# EAGLE library part ATMEGA*U4 (library atmel)
8-bit AVR Microcontroller 16/32 kbytes flash 1.25k/2.5k bytes SRAM 512/1k bytes EEPROM USART USB 2.0 ADC
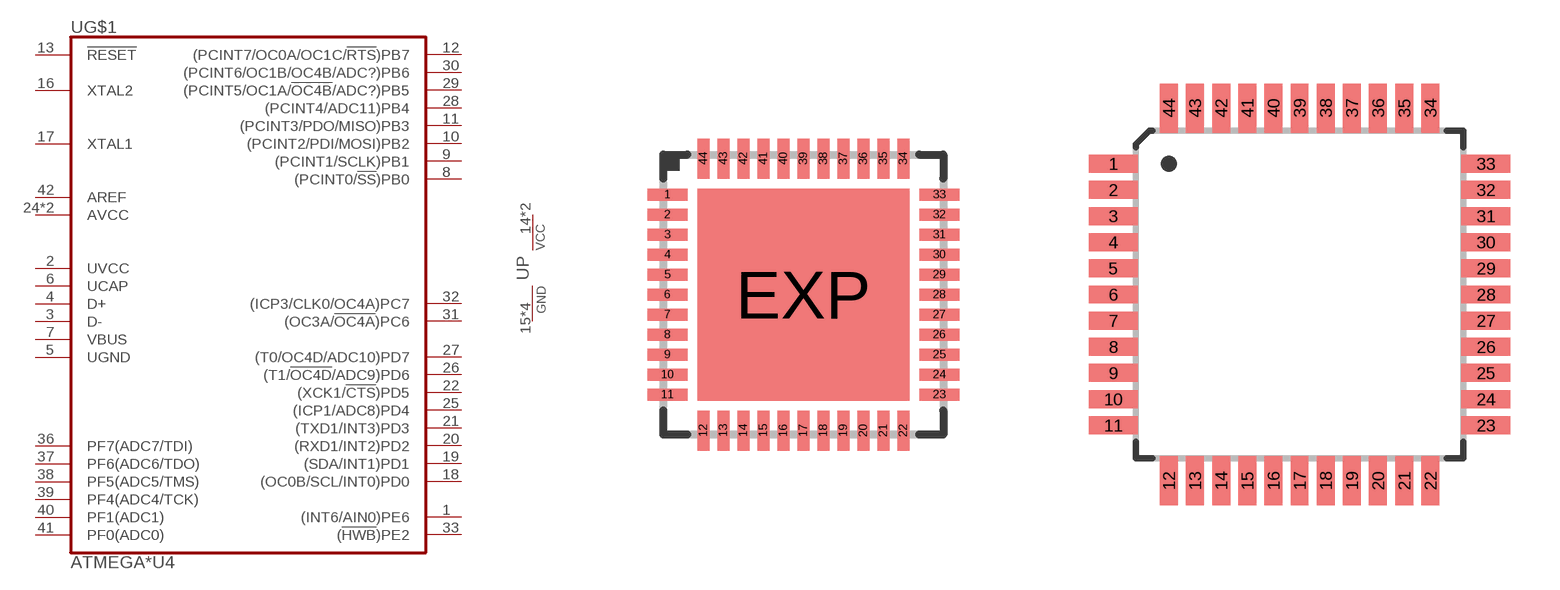
[diagram p34: symbol with the pads of QFN44_7X7_0.50; footprints QFN44_7X7_0.50, QFP44_10X10_0.80]

Designator prefix U; gates G$1=MEGA32U4 P=PWR

## ATMEGA16U4-MU, ATMEGA32U4-MU  [QFN44_7X7_0.50]
1  G$1:(INT6/AIN0)PE6
2  G$1:UVCC  pwr
3  G$1:D-
4  G$1:D+
5  G$1:UGND  pwr
6  G$1:UCAP  pas
7  G$1:VBUS  in
8  G$1:(PCINT0/!SS!)PB0
9  G$1:(PCINT1/SCLK)PB1
10  G$1:(PCINT2/PDI/MOSI)PB2
11  G$1:(PCINT3/PDO/MISO)PB3
12  G$1:(PCINT7/OC0A/OC1C/!RTS!)PB7
13  G$1:!RESET!  in
14  P:VCC  pwr
15  P:GND  pwr
16  G$1:XTAL2
17  G$1:XTAL1
18  G$1:(OC0B/SCL/INT0)PD0
19  G$1:(SDA/INT1)PD1
20  G$1:(RXD1/INT2)PD2
21  G$1:(TXD1/INT3)PD3
22  G$1:(XCK1/!CTS!)PD5
23  P:GND  pwr
24  G$1:AVCC  pwr
25  G$1:(ICP1/ADC8)PD4
26  G$1:(T1/!OC4D!/ADC9)PD6
27  G$1:(T0/OC4D/ADC10)PD7
28  G$1:(PCINT4/ADC11)PB4
29  G$1:(PCINT5/OC1A/!OC4B!/ADC?)PB5
30  G$1:(PCINT6/OC1B/OC4B/ADC?)PB6
31  G$1:(OC3A/!OC4A!)PC6
32  G$1:(ICP3/CLK0/OC4A)PC7
33  G$1:(!HWB!)PE2
34  P:VCC  pwr
35  P:GND  pwr
36  G$1:PF7(ADC7/TDI)
37  G$1:PF6(ADC6/TDO)
38  G$1:PF5(ADC5/TMS)
39  G$1:PF4(ADC4/TCK)
40  G$1:PF1(ADC1)
41  G$1:PF0(ADC0)
42  G$1:AREF  pas
43  P:GND  pwr
44  G$1:AVCC  pwr

## ATMEGA16U4RC-MU, ATMEGA32U4RC-MU  [QFN44_7X7_0.50]
Pads as for QFN44_7X7_0.50

## ATMEGA16U4-AU, ATMEGA32U4-AU  [QFP44_10X10_0.80]
Pads as for QFN44_7X7_0.50

## ATMEGA16U4RC-AU, ATMEGA32U4RC-AU  [QFP44_10X10_0.80]
Pads as for QFN44_7X7_0.50

## Footprint QFN44_7X7_0.50 (pad centres in mm)
44-Lead Plastic QFN, 7mm x 7mm body, 0.5mm lead pitch, exposed pad ATMEL Code: 44M1, ZWS
smd 1 x 0.3: 1 -3.4,2.5; 2 -3.4,2; 3 -3.4,1.5; 4 -3.4,1; 5 -3.4,0.5; 6 -3.4,0; 7 -3.4,-0.5; 8 -3.4,-1; 9 -3.4,-1.5; 10 -3.4,-2; 11 -3.4,-2.5; 23 3.4,-2.5; 24 3.4,-2; 25 3.4,-1.5; 26 3.4,-1; 27 3.4,-0.5; 28 3.4,0; 29 3.4,0.5; 30 3.4,1; 31 3.4,1.5; 32 3.4,2; 33 3.4,2.5
smd 0.3 x 1: 12 -2.5,-3.4; 13 -2,-3.4; 14 -1.5,-3.4; 15 -1,-3.4; 16 -0.5,-3.4; 17 0,-3.4; 18 0.5,-3.4; 19 1,-3.4; 20 1.5,-3.4; 21 2,-3.4; 22 2.5,-3.4; 34 2.5,3.4; 35 2,3.4; 36 1.5,3.4; 37 1,3.4; 38 0.5,3.4; 39 0,3.4; 40 -0.5,3.4; 41 -1,3.4; 42 -1.5,3.4; 43 -2,3.4; 44 -2.5,3.4
smd 5.3 x 5.3: EXP 0,0

## Footprint QFP44_10X10_0.80 (pad centres in mm)
Thin Plasic Quad Flat Package, 10mm x 10mm body, 0.80mm lead pitch JEDEC: MS-026 ACB ATMEL Code: 44A
smd 1.5 x 0.55: 1 -5.7,4; 2 -5.7,3.2; 3 -5.7,2.4; 4 -5.7,1.6; 5 -5.7,0.8; 6 -5.7,0; 7 -5.7,-0.8; 8 -5.7,-1.6; 9 -5.7,-2.4; 10 -5.7,-3.2; 11 -5.7,-4; 23 5.7,-4; 24 5.7,-3.2; 25 5.7,-2.4; 26 5.7,-1.6; 27 5.7,-0.8; 28 5.7,0; 29 5.7,0.8; 30 5.7,1.6; 31 5.7,2.4; 32 5.7,3.2; 33 5.7,4
smd 0.55 x 1.5: 12 -4,-5.7; 13 -3.2,-5.7; 14 -2.4,-5.7; 15 -1.6,-5.7; 16 -0.8,-5.7; 17 0,-5.7; 18 0.8,-5.7; 19 1.6,-5.7; 20 2.4,-5.7; 21 3.2,-5.7; 22 4,-5.7; 34 4,5.7; 35 3.2,5.7; 36 2.4,5.7; 37 1.6,5.7; 38 0.8,5.7; 39 0,5.7; 40 -0.8,5.7; 41 -1.6,5.7; 42 -2.4,5.7; 43 -3.2,5.7; 44 -4,5.7